# Altium integrated library 1586041-6.IntLib: 1 symbol
Pins are listed as number, name and electrical type; pins without a type are passive.

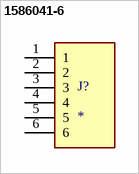
[diagram p0: symbol 1586041-6]

## 1586041-6
designator J?
MP: 1586041-6; Package: None; Price: None; Value: *; Availability: Unavailable
footprint TE_1586041-6
pins: 1, 2, 3, 4, 5, 6